# Altium footprint library SparkFun-Passives.PCBLIB: 102 footprints (part 7 of 7)
Each footprint in its own frame and in the unit in brackets; x right, y up, seen from the top. Pads: shape width x height; smd on the part's side, far side on the other; paste and mask are expansions set on the pad; w line width, h text height; cw(c..) or ccw(c..) is an arc to the next point about the centre after c.
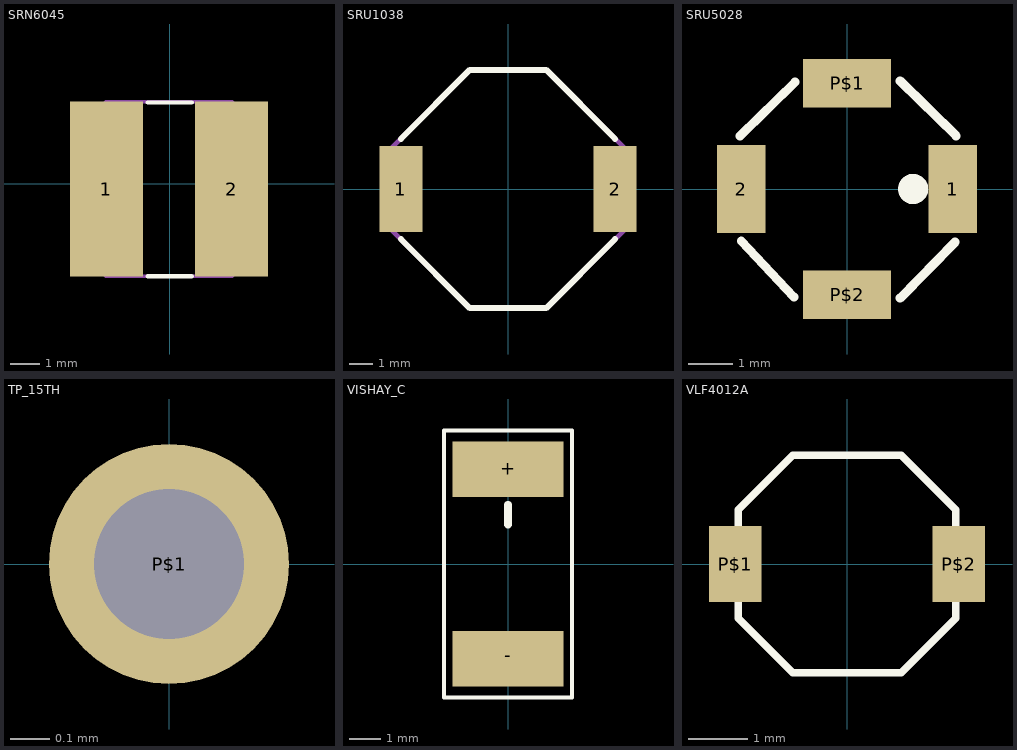
[diagram p6: the footprints below, top view; thin cyan lines are the x and y axes]

## SRN6045 [mm]
pads (2):
  rect 2.5x6 smd: 1(-2.175,-0.175) 2(2.125,-0.175)
Top Overlay:
  lines w0.152: -0.762,-3.175 0.762,-3.175 ; -0.762,2.794 0.762,2.794
Mechanical 16:
  lines w0.127: -3.175,-2.175 -2.175,-3.175 2.125,-3.175 3.125,-2.175 3.125,1.825 2.125,2.825 -2.175,2.825 -3.175,1.825 -3.175,-2.175

## SRU1038 [mil]
pads (2):
  rect 70.87x141.73 smd: 1(-177.17,0) 2(177.17,0)
Top Overlay:
  lines w10: -177.17,-82.68 -62.99,-196.85 62.99,-196.85 177.17,-82.68 ; -177.17,82.68 -62.99,196.85 62.99,196.85 177.17,82.68
Mechanical 16:
  lines w8: -196.85,-62.99 -196.85,62.99 -62.99,196.85 62.99,196.85 196.85,62.99 196.85,-62.99 62.99,-196.85 -62.99,-196.85 -196.85,-62.99

## SRU5028 [mm]
pads (4):
  rect 1.1x2 smd: 1(2.4,0) 2(-2.4,0)
  rect 2x1.1 smd: P$1(0,2.4) P$2(0,-2.4)
Top Overlay:
  circle w0.4: c1.5,0 r0.141
  lines w0.203: -2.422,1.205 -1.179,2.422 ; -2.397,-1.179 -1.205,-2.448 ; 1.205,-2.473 2.448,-1.205 ; 1.205,2.448 2.473,1.205
Mechanical 16:
  lines w0.203: -2.6,-0.9 -2.6,0.9 ; -0.9,-2.6 0.9,-2.6 ; -0.9,2.6 0.9,2.6 ; 2.6,-0.9 2.6,0.9

## TP_15TH [mil]
pads (1):
  round 24 hole 15: P$1(0,0)
Bottom Solder:
  circle w0: c0,0 r15

## VISHAY_C [mil]
pads (2):
  rect 140x70 smd: +(0,120) -(0,-120)
Top Overlay:
  lines w5: -81,-169 -81,169 81,169 81,-169 -81,-169
  lines w10: 0,50 0,75

## VLF4012A [mil]
pads (2):
  rect 35.43x51.18 smd: P$1(-74.8,0) P$2(74.8,0)
Top Overlay:
  lines w5: -72.83,-36.42 -36.42,-72.83 36.42,-72.83 72.83,-36.42 72.83,36.42 36.42,72.83 -36.42,72.83 -72.83,36.42 -72.83,-36.42